# EAGLE library part SDMOD (library RobThePyro)
Micro sd card module
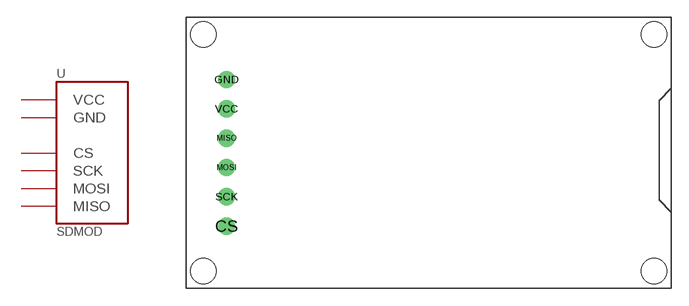
[diagram p13: symbol with the pads of SDMOD; footprint SDMOD]

Designator prefix -

## SDMOD  [SDMOD]
CS  CS
GND  GND
MISO  MISO
MOSI  MOSI
SCK  SCK
VCC  VCC

## Footprint SDMOD (pad centres in mm)
drill 1: CS 3.5,5.4; GND 3.5,18.1; MISO 3.5,13.02; MOSI 3.5,10.48; SCK 3.5,7.94; VCC 3.5,15.56
hole 2.2 at 1.5,1.5
hole 2.2 at 1.5,22
hole 2.2 at 40.5,22
hole 2.2 at 40.5,1.5